# Altium footprint library PCB库.PcbLib: 16 footprints
Each footprint in its own frame and in the unit in brackets; x right, y up, seen from the top. Pads: shape width x height; smd on the part's side, far side on the other; paste and mask are expansions set on the pad; w line width, h text height; cw(c..) or ccw(c..) is an arc to the next point about the centre after c.
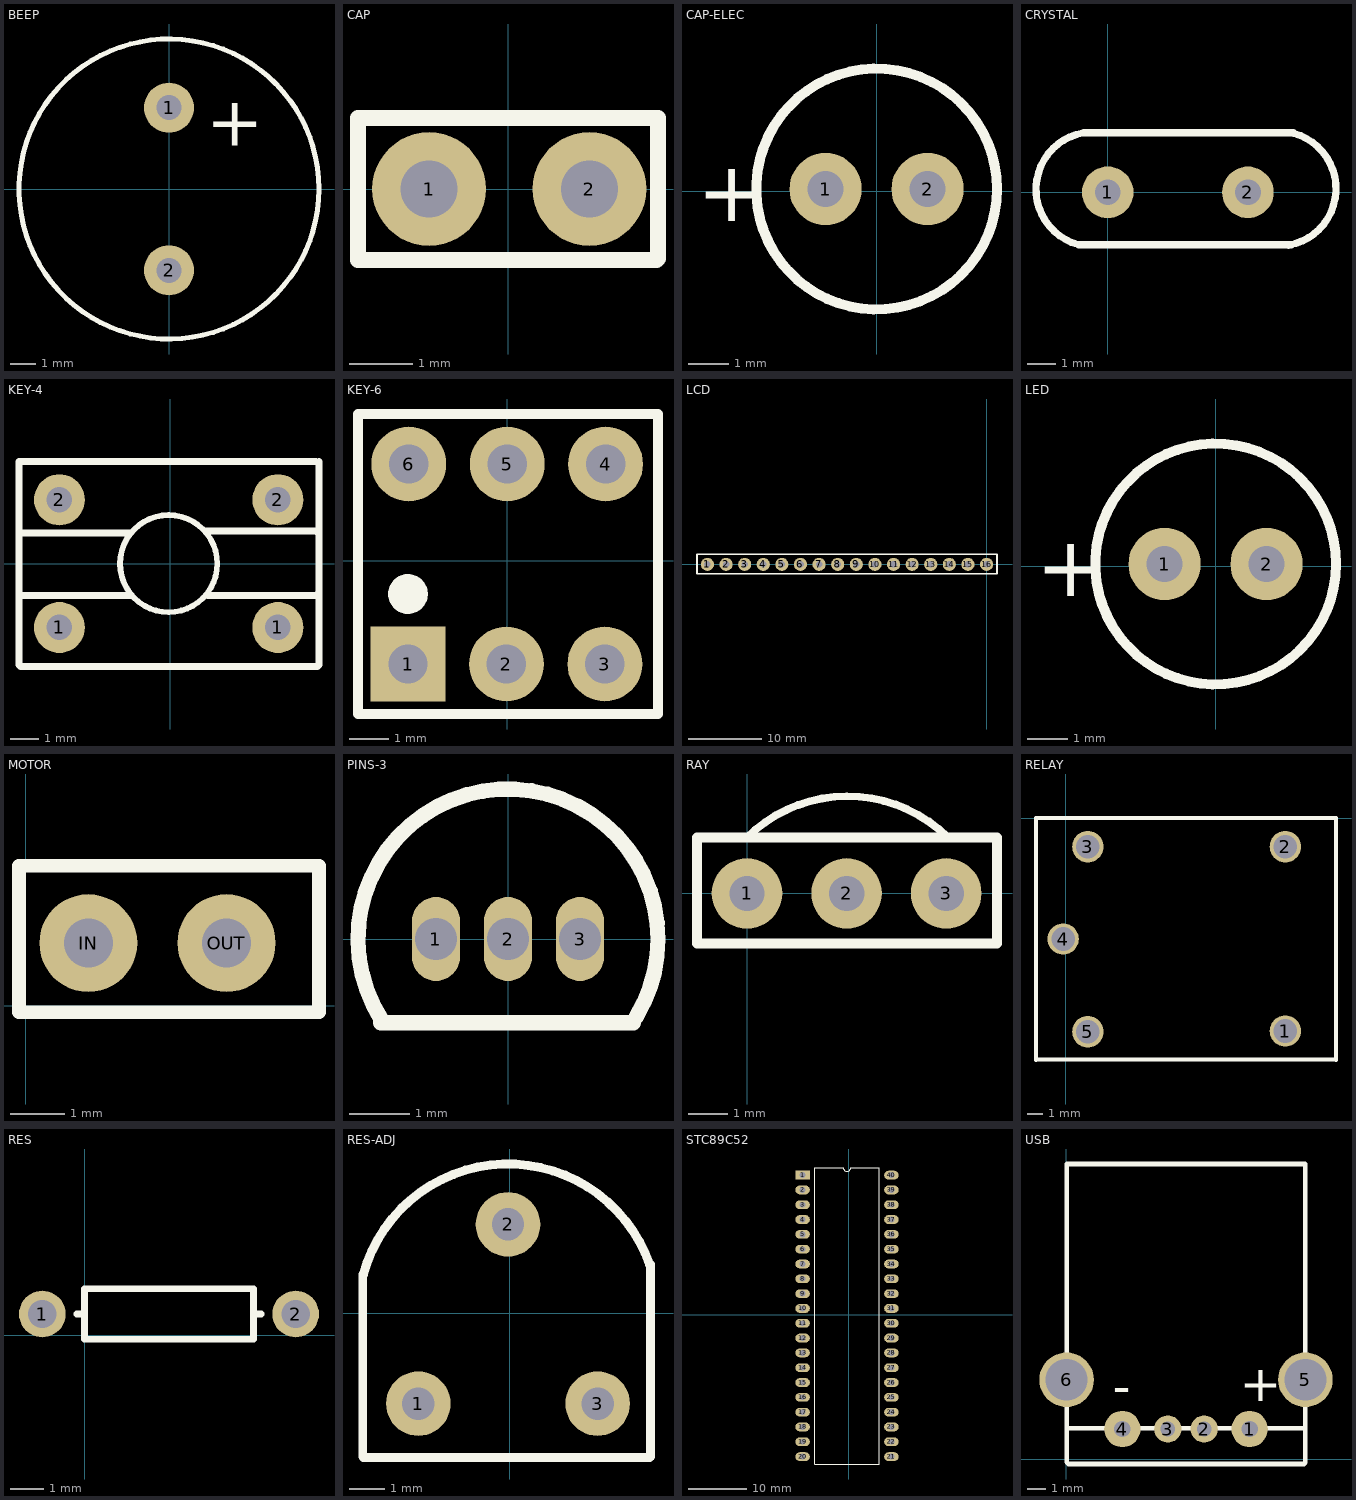
[diagram p0: the footprints below, top view; thin cyan lines are the x and y axes]

## BEEP [mm]
pads (2):
  round 2 hole 1: 1(0,3.25) 2(0,-3.25)
Top Overlay:
  circle w0.2: c0,0 r6
  text "+" at 1.499,1.727 h2

## CAP [mm]
pads (2):
  round 1.8 hole 0.9: 1(-1.25,0) 2(1.29,0)
Top Overlay:
  lines w0.25: -2.375,-1.125 2.35,-1.125 2.375,-1.1 2.375,1.125 -2.375,1.125 -2.375,-1.125

## CAP-ELEC [mm]
pads (2):
  round 1.8 hole 0.9: 1(-1.27,0.05) 2(1.27,0.05)
Top Overlay:
  circle w0.25: c0,0.05 r3
  text "+" at -4.475,-0.75 h1.5

## CRYSTAL [mm]
pads (2):
  round 1.8 hole 0.9: 1(0,0) 2(4.88,0)
Top Overlay:
  lines w0.25: -1.016,-1.827 cw(c-0.501,0.106) -0.85,2.075 6.465,2.075 ; -1.016,-1.825 6.4,-1.825 ; 6.299,-1.844 ccw(c5.95,0.125) 6.465,2.057

## KEY-4 [mm]
pads (4):
  round 1.8 hole 0.9: 1(-3.9,-2.25) 1(3.8,-2.25) 2(-3.9,2.25) 2(3.8,2.25)
Top Overlay:
  circle w0.2: c-0.05,0 r1.712
  lines w0.25: -5.325,-1.125 -1.4,-1.125 -1.375,-1.1 ; -5.325,3.6 -5.325,-3.575 -5.275,-3.625 5.2,-3.625 5.25,-3.575 5.25,3.6 ; -5.3,3.575 -5.275,3.6 5.15,3.6 ; -5.225,1.075 -1.4,1.075 ; 1.275,1.15 5.15,1.15 5.175,1.125 ; 1.325,-1.125 5.15,-1.125 5.25,-1.025

## KEY-6 [mm]
pads (6):
  rect 1.9x1.9 hole 1: 1(-2.525,-2.625)
  round 1.9 hole 1: 2(-0.025,-2.625) 3(2.475,-2.625) 4(2.495,2.455) 5(-0.005,2.455) 6(-2.505,2.455)
Top Overlay:
  circle w0.5: c-2.525,-0.847 r0.254
  lines w0.254: -3.795,-3.895 3.825,-3.895 3.825,3.725 -3.795,3.725 -3.795,-3.895

## LCD [mm]
pads (16):
  round 1.8 hole 0.9: 1(-38.1,0) 2(-35.56,0) 3(-33.02,0) 4(-30.48,0) 5(-27.94,0) 6(-25.4,0) 7(-22.86,0) 8(-20.32,0) 9(-17.78,0) 10(-15.24,0) 11(-12.7,0) 12(-10.16,0) 13(-7.62,0) 14(-5.08,0) 15(-2.54,0) 16(0,0)
Top Overlay:
  lines w0.25: 1.425,-1.275 -39.475,-1.275 -39.525,-1.225 -39.525,1.375 1.425,1.375
  lines w0.254: 1.425,-1.27 1.425,1.375

## LED [mm]
pads (2):
  round 1.8 hole 0.9: 1(-1.27,0.05) 2(1.27,0.05)
Top Overlay:
  circle w0.25: c0,0.05 r3
  text "+" at -4.475,-0.75 h1.5

## MOTOR [mm]
pads (2):
  round 1.8 hole 0.9: IN(1.148,1.148) OUT(3.688,1.148)
Top Overlay:
  lines w0.25: -0.127,-0.127 5.388,-0.127 5.388,2.573 -0.127,2.573 -0.127,-0.127

## PINS-3 [mm]
pads (3):
  oval 0.8x1.4 hole 0.7: 1(-1.2,0) 2(0,0) 3(1.2,0)
Top Overlay:
  lines w0.254: -2.12,-1.397 2.09,-1.397 ; -2.12,-1.325 cw(c0,0) 2.137,-1.298

## RAY [mm]
pads (3):
  round 1.8 hole 0.9: 1(0,0) 2(2.54,0) 3(5.08,0)
Top Overlay:
  lines w0.2: -0.025,1.4 cw(c2.563,-1.162) 5.125,1.425
  lines w0.25: -1.275,-1.275 6.375,-1.275 6.375,1.425 -1.275,1.425 -1.275,-1.275

## RELAY [mm]
pads (5):
  round 2 hole 1.5: 1(13.97,-13.558) 2(13.97,-1.825) 3(1.397,-1.825) 4(-0.18,-7.7) 5(1.397,-13.605)
Top Overlay:
  lines w0.254: -1.905,-15.4 -1.905,0 17.195,0 17.195,-15.4 ; -1.905,-15.383 17.145,-15.383

## RES [mm]
pads (2):
  round 1.4 hole 0.85: 1(-1.27,0.635) 2(6.35,0.635)
Top Overlay:
  lines w0.2: -0.229,0.635 0,0.635 ; 5.309,0.635 5.08,0.635 ; 5.08,0.635 5.08,1.397 0,1.397 0,-0.127 5.08,-0.127 5.08,0.635

## RES-ADJ [mm]
pads (3):
  round 1.8 hole 0.9: 1(-2.55,-2.525) 2(-0.05,2.475) 3(2.45,-2.525)
Top Overlay:
  lines w0.25: -4.1,1.08 -4.1,-4 -4.075,-4.025 3.9,-4.025 3.925,-4 3.925,1.351 ; -4.084,1.08 cw(c-0.05,-0.025) 3.899,1.351

## STC89C52 [mm]
pads (40):
  rect 2.5x1.5 hole 1: 1(-7.9,23.9)
  oval 2.5x1.5 hole 1: 2(-7.9,21.36) 3(-7.9,18.82) 4(-7.9,16.28) 5(-7.9,13.74) 6(-7.9,11.2) 7(-7.9,8.66) 8(-7.9,6.12) 9(-7.9,3.58) 10(-7.9,1.04) 11(-7.9,-1.5) 12(-7.9,-4.04) 13(-7.9,-6.58) 14(-7.9,-9.12) 15(-7.9,-11.66) 16(-7.9,-14.2) 17(-7.9,-16.74) 18(-7.9,-19.28) 19(-7.9,-21.82) 20(-7.9,-24.36) 21(7.34,-24.36) 22(7.34,-21.82) 23(7.34,-19.28) 24(7.34,-16.74) 25(7.34,-14.2) 26(7.34,-11.66) 27(7.34,-9.12) 28(7.34,-6.58) 29(7.34,-4.04) 30(7.34,-1.5) 31(7.34,1.04) 32(7.34,3.58) 33(7.34,6.12) 34(7.34,8.66) 35(7.34,11.2) 36(7.34,13.74) 37(7.34,16.28) 38(7.34,18.82) 39(7.34,21.36) 40(7.34,23.9)
Top Overlay:
  lines w0.2: -5.815,-25.63 -5.815,25.17 -0.915,25.17 ccw(c-0.28,25.17) 0.355,25.17 5.255,25.17 5.255,-25.63 -5.815,-25.63

## USB [mm]
pads (6):
  round 2 hole 0.9: 1(10.092,1.671) 4(3.092,1.671)
  round 1.5 hole 0.8: 2(7.592,1.671) 3(5.592,1.671)
  round 3 hole 2.3: 5(13.162,4.381) 6(0.022,4.381)
Top Overlay:
  lines w0.25: 0.022,1.721 13.092,1.721 13.117,1.746 ; 13.162,4.381 13.162,16.166 ; 13.162,5.596 13.162,-0.174 13.082,-0.254 0.127,-0.254 0.022,-0.149 0.022,4.381 0.022,16.241 0.027,16.246 13.162,16.246
  text "-" at 2.567,3.071 h2
  text "+" at 9.542,3.196 h2